# EAGLE library part DM3AT (library SD_Card)
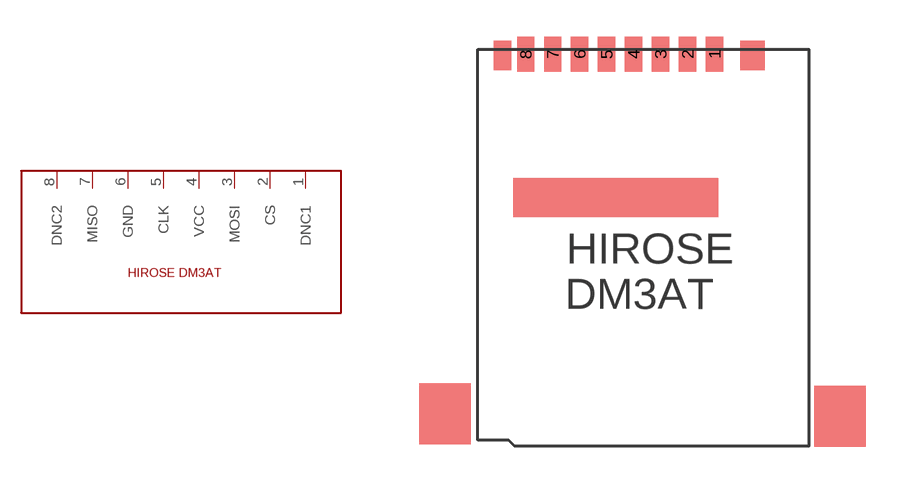
[diagram p0: symbol with the pads of DM3AT; footprint DM3AT]

Designator prefix -

## DM3AT  [DM3AT]
1  DNC1
2  CS
3  MOSI
4  VCC
5  CLK
6  GND
7  MISO
8  DNC2

## Footprint DM3AT (pad centres in mm)
smd 0.711 x 1.422: 1 2.84,6.63; 2 1.74,6.63; 3 0.64,6.63; 4 -0.46,6.63; 5 -1.56,6.63; 6 -2.66,6.63; 7 -3.76,6.63; 8 -4.86,6.63